# EAGLE library part FC1-10-02-T-WT-TR (library FC1-10-02-T-WT-TR)
FFC & FPC Connectors 1.00 mm Flat Flexible Cable (FFC) Socket Strip Source: Datasheet <http://suddendocs.samtec.com/prints/fc1-xx-xx-xx-xx-mkt.pdf>
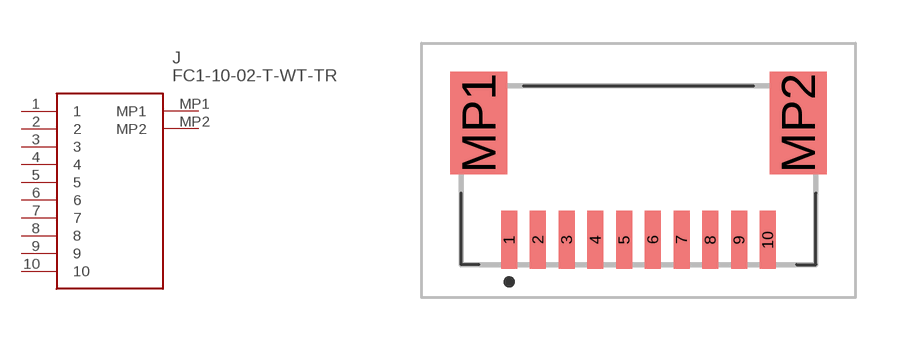
[diagram p0: symbol with the pads of FC11002TWTTR; footprint FC11002TWTTR]

Designator prefix J

## FC1-10-02-T-WT-TR (DESCRIPTION: FFC & FPC Connectors 1.00 mm Flat Flexible Cable (FFC) Socket Strip; HEIGHT: 5.19mm; MANUFACTURER_NAME: SAMTEC; MANUFACTURER_PART_NUMBER: FC1-10-02-T-WT-TR; MOUSER_PART_NUMBER: 200-FC11002TWTTR; MOUSER_PRICE-STOCK: https://www.mouser.com/Search/Refine.aspx?Keyword=200-FC11002TWTTR)  [FC11002TWTTR]
1  1
2  2
3  3
4  4
5  5
6  6
7  7
8  8
9  9
10  10
MP1  MP1
MP2  MP2

## Footprint FC11002TWTTR (pad centres in mm)
FC1-10-02-T-WT-TR-3
smd 0.56 x 2.03: 1 -4.5,0.865; 2 -3.5,0.865; 3 -2.5,0.865; 4 -1.5,0.865; 5 -0.5,0.865; 6 0.5,0.865; 7 1.5,0.865; 8 2.5,0.865; 9 3.5,0.865; 10 4.5,0.865
smd 1.98 x 3.56: MP1 -5.56,4.93; MP2 5.56,4.93